# Altium footprint library SMD кварц.PcbLib: 1 footprints
Each footprint in its own frame and in the unit in brackets; x right, y up, seen from the top. Pads: shape width x height; smd on the part's side, far side on the other; paste and mask are expansions set on the pad; w line width, h text height; cw(c..) or ccw(c..) is an arc to the next point about the centre after c.
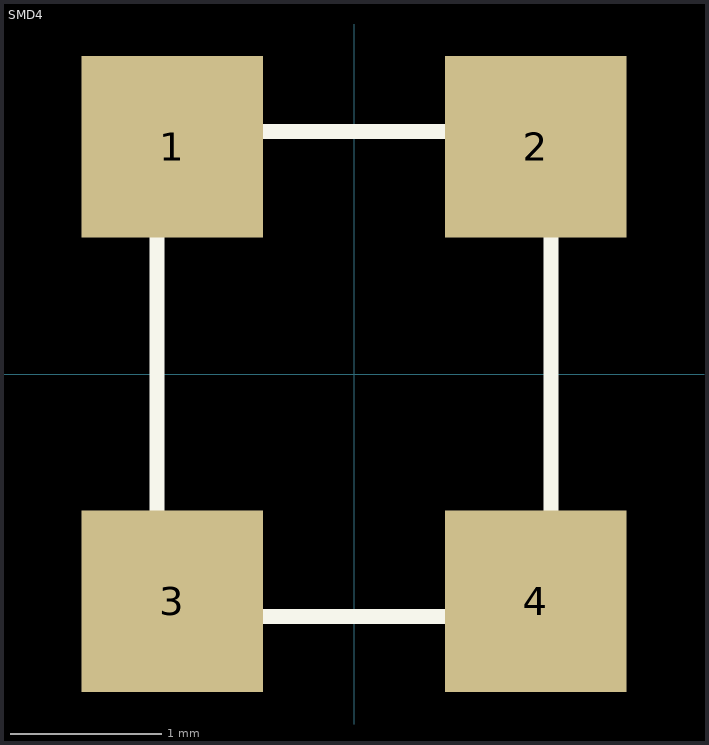
[diagram p0: the footprint, top view; thin cyan lines are the x and y axes]

## SMD4 [mm]
pads (4):
  rect 1.2x1.2 smd paste+0 mask+0.003: 1(-1.2,1.5) 2(1.2,1.5) 3(-1.2,-1.5) 4(1.2,-1.5)
Top Overlay:
  lines w0.1: -1.3,-1.6 1.3,-1.6 1.3,1.6 -1.3,1.6 -1.3,-1.6
3D body "User Library-CDFN3225.SLDPRT": height 0.95, standoff 0.05, extent -1.25,-1.6 1.25,1.6